# Altium schematic symbol library Clock.SchLib: 9 symbols
Pins are listed as number, name and electrical type; pins without a type are passive.

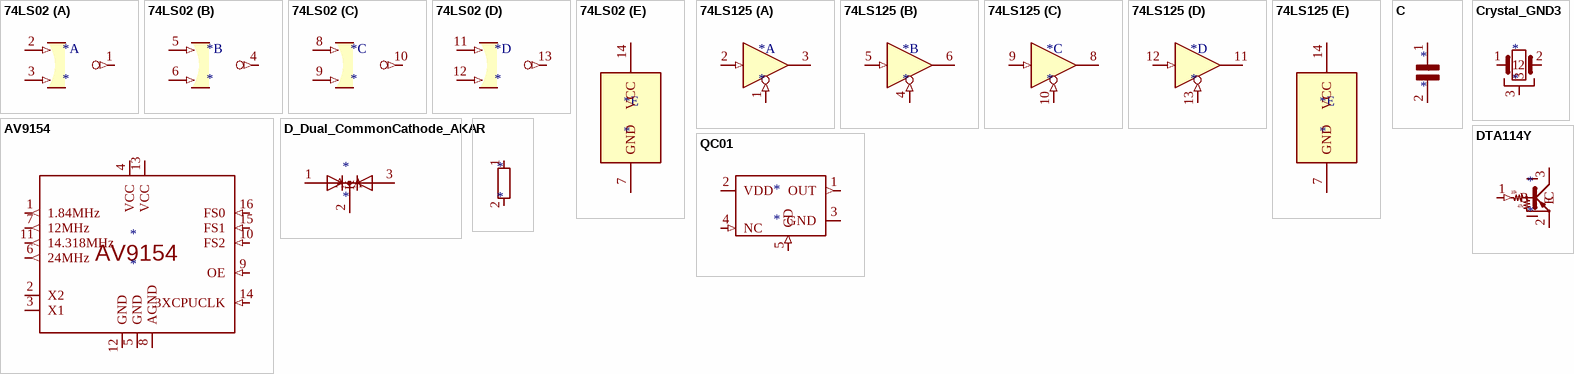
[diagram p0: symbols 74LS02 to R]

## 74LS02
designator *
part A pins: 1 (out), 2 (in), 3 (in)
part B pins: 4 (out), 5 (in), 6 (in)
part C pins: 8 (in), 9 (in), 10 (out)
part D pins: 11 (in), 12 (in), 13 (out)
part E pins: 7 GND (power), 14 VCC (power)
1 alternate drawing of the same symbol

## 74LS125
designator *
part A pins: 1 (in), 2 (in), 3 (hiz)
part B pins: 4 (in), 5 (in), 6 (hiz)
part C pins: 8 (hiz), 9 (in), 10 (in)
part D pins: 11 (hiz), 12 (in), 13 (in)
part E pins: 7 GND (power), 14 VCC (power)

## AV9154
designator *
pins: 1 1.84MHz (out), 2 X2 (io), 3 X1 (io), 4 VCC (power), 5 GND (power), 6 24MHz (out), 7 12MHz (out), 8 AGND (power), 9 OE (in), 10 FS2 (in), 11 14.318MHz (out), 12 GND (power), 13 VCC (power), 14 3XCPUCLK (in), 15 FS1 (in), 16 FS0 (in)

## C
designator *
pins: 1 +, 2 -
1 alternate drawing of the same symbol

## Crystal_GND3
designator *
pins: 1, 2, 3

## D_Dual_CommonCathode_AKA
designator *
pins: 1 A, 2 K, 3 A

## DTA114Y
designator *
pins: 1 B (in), 2 E, 3 C
text: 10k; 47k

## QC01
designator *
pins: 1 OUT (out), 2 VDD (power), 3 GND (power), 4 NC (in), 5 CD (in)

## R
designator *
pins: 1, 2